# Altium schematic symbol library LT6222.Schlib: 1 symbol
Pins are listed as number, name and electrical type; pins without a type are passive.

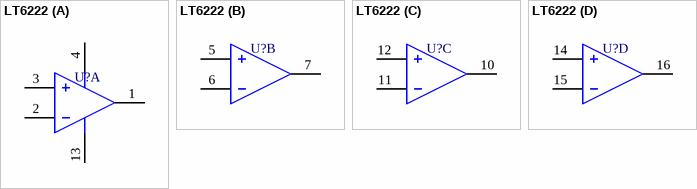
[diagram p0: symbol LT6222]

## LT6222
designator U?
part A pins: 1 OUTA, 2 -IN A, 3 +IN A, 4 V+, 13 V-
part B pins: 5 +IN B, 6 -IN B, 7 OUTB
part C pins: 10 OUTC, 11 -IN C, 12 +IN C
part D pins: 14 +IN D, 15 -IN D, 16 OUTD